# EAGLE library part AU6350-MFL (library au6350)
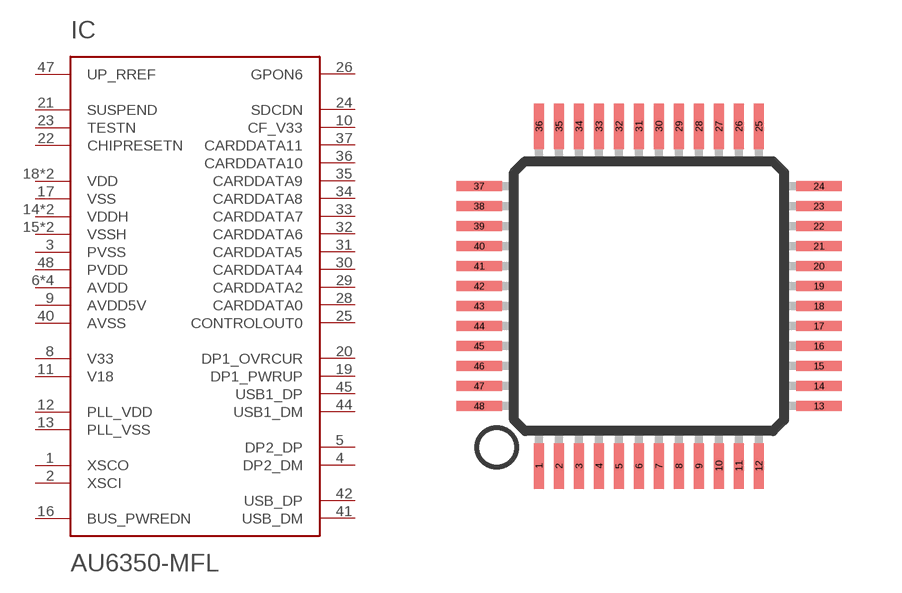
[diagram p0: symbol with the pads of LQFP-48; footprint LQFP-48]

Designator prefix IC

## AU6350-MFL  [LQFP-48]
1  XSCO
2  XSCI
3  PVSS  pwr
4  DP2_DM
5  DP2_DP
6  AVDD  pwr
7  AVDD  pwr
8  V33  pwr
9  AVDD5V  pwr
10  CF_V33
11  V18  pwr
12  PLL_VDD  pwr
13  PLL_VSS  pwr
14  VDDH  pwr
15  VSSH  pwr
16  BUS_PWREDN  in
17  VSS  pwr
18  VDD  pwr
19  DP1_PWRUP  out
20  DP1_OVRCUR  in
21  SUSPEND  out
22  CHIPRESETN  in
23  TESTN  in
24  SDCDN  in
25  CONTROLOUT0  out
26  GPON6  out
27  VDD  pwr
28  CARDDATA0
29  CARDDATA2
30  CARDDATA4
31  CARDDATA5
32  CARDDATA6
33  CARDDATA7
34  CARDDATA8
35  CARDDATA9
36  CARDDATA10
37  CARDDATA11
38  VDDH  pwr
39  VSSH  pwr
40  AVSS  pwr
41  USB_DM
42  USB_DP
43  AVDD  pwr
44  USB1_DM
45  USB1_DP
46  AVDD  pwr
47  UP_RREF
48  PVDD  pwr

## Footprint LQFP-48 (pad centres in mm)
smd 0.254 x 1.143: 1 -2.75,-4.25; 2 -2.25,-4.25; 3 -1.75,-4.25; 4 -1.25,-4.25; 5 -0.75,-4.25; 6 -0.25,-4.25; 7 0.25,-4.25; 8 0.75,-4.25; 9 1.25,-4.25; 10 1.75,-4.25; 11 2.25,-4.25; 12 2.75,-4.25; 25 2.75,4.25; 26 2.25,4.25; 27 1.75,4.25; 28 1.25,4.25; 29 0.75,4.25; 30 0.25,4.25; 31 -0.25,4.25; 32 -0.75,4.25; 33 -1.25,4.25; 34 -1.75,4.25; 35 -2.25,4.25; 36 -2.75,4.25
smd 1.143 x 0.254: 13 4.25,-2.75; 14 4.25,-2.25; 15 4.25,-1.75; 16 4.25,-1.25; 17 4.25,-0.75; 18 4.25,-0.25; 19 4.25,0.25; 20 4.25,0.75; 21 4.25,1.25; 22 4.25,1.75; 23 4.25,2.25; 24 4.25,2.75; 37 -4.25,2.75; 38 -4.25,2.25; 39 -4.25,1.75; 40 -4.25,1.25; 41 -4.25,0.75; 42 -4.25,0.25; 43 -4.25,-0.25; 44 -4.25,-0.75; 45 -4.25,-1.25; 46 -4.25,-1.75; 47 -4.25,-2.25; 48 -4.25,-2.75